# Altium footprint library LGA12S0_5P4X4_2X2X1.PcbLib: 1 footprints
Each footprint in its own frame and in the unit in brackets; x right, y up, seen from the top. Pads: shape width x height; smd on the part's side, far side on the other; paste and mask are expansions set on the pad; w line width, h text height; cw(c..) or ccw(c..) is an arc to the next point about the centre after c.
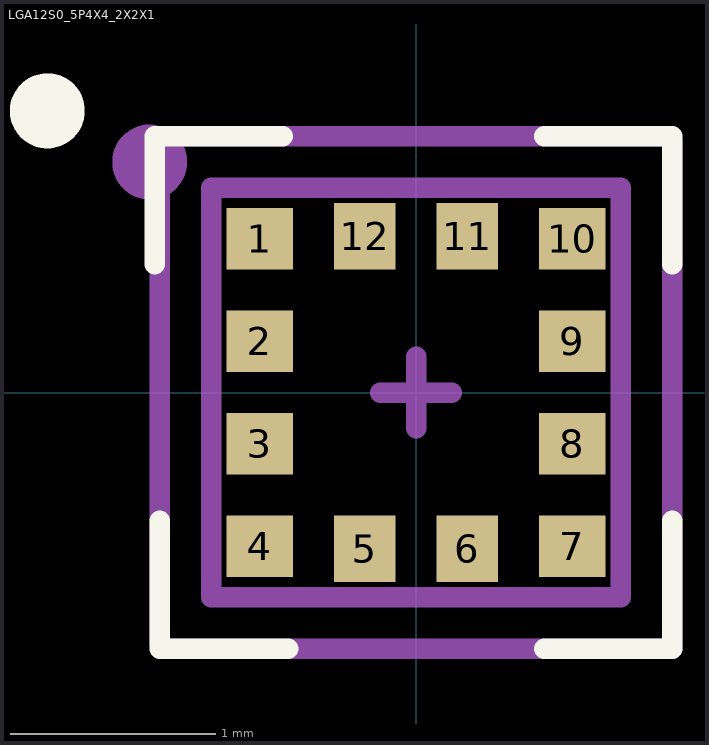
[diagram p0: the footprint, top view; thin cyan lines are the x and y axes]

## LGA12S0_5P4X4_2X2X1 [mm]
pads (12):
  rect 0.325x0.3 smd: 1(-0.763,0.75) 2(-0.763,0.25) 3(-0.763,-0.25) 4(-0.763,-0.75) 7(0.763,-0.75) 8(0.763,-0.25) 9(0.763,0.25) 10(0.763,0.75)
  rect 0.3x0.325 smd: 5(-0.25,-0.763) 6(0.25,-0.763) 11(0.25,0.763) 12(-0.25,0.763)
Top Overlay:
  circle w0.254: c-1.8,1.375 r0.056
  lines w0.1: -1.275,0.625 -1.275,1.25 -0.65,1.25 ; -1.25,-0.625 -1.25,-1.25 -0.625,-1.25 ; 0.625,-1.25 1.25,-1.25 1.25,-0.625 ; 0.625,1.25 1.25,1.25 1.25,0.625
Mechanical 1:
  circle w0.254: c-1.3,1.125 r0.056
  lines w0.1: -1,-1 -1,1 1,1 1,-1 -1,-1
  text ".Designator" at 0.092,0.012 h0.6
Mechanical 15:
  lines w0.1: -0.175,0 0.175,0 ; 0,-0.175 0,0.175 ; -1.25,-1.225 -1.225,-1.25 1.25,-1.25 1.25,1.225 1.225,1.25 -1.25,1.25 -1.25,-1.225
3D body: height 1, standoff 0, extent -1,-1 1,1